# EAGLE library part ATTINY2313A (library usb)
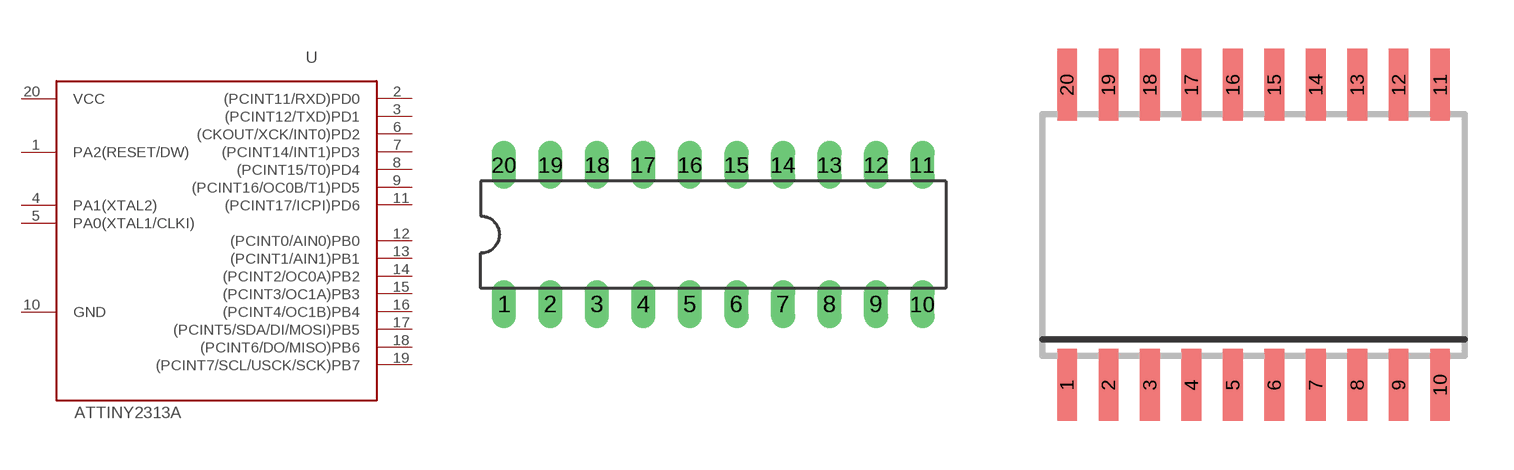
[diagram p18: symbol with the pads of DIL20; footprints DIL20, SO-20DW]

Designator prefix U

## ATTINY2313A-PU  [DIL20]
1  PA2(RESET/DW)
2  (PCINT11/RXD)PD0
3  (PCINT12/TXD)PD1
4  PA1(XTAL2)
5  PA0(XTAL1/CLKI)
6  (CKOUT/XCK/INT0)PD2
7  (PCINT14/INT1)PD3
8  (PCINT15/T0)PD4
9  (PCINT16/OC0B/T1)PD5
10  GND  pwr
11  (PCINT17/ICPI)PD6
12  (PCINT0/AIN0)PB0
13  (PCINT1/AIN1)PB1
14  (PCINT2/OC0A)PB2
15  (PCINT3/OC1A)PB3
16  (PCINT4/OC1B)PB4
17  (PCINT5/SDA/DI/MOSI)PB5
18  (PCINT6/DO/MISO)PB6
19  (PCINT7/SCL/USCK/SCK)PB7
20  VCC  pwr

## ATTINY2313A-SU  [SO-20DW]
Pads as for DIL20

## Footprint DIL20 (pad centres in mm)
Dual In Line Package
drill 0.813 long: 1 -11.43,-3.81; 2 -8.89,-3.81; 3 -6.35,-3.81; 4 -3.81,-3.81; 5 -1.27,-3.81; 6 1.27,-3.81; 7 3.81,-3.81; 8 6.35,-3.81; 9 8.89,-3.81; 10 11.43,-3.81; 11 11.43,3.81; 12 8.89,3.81; 13 6.35,3.81; 14 3.81,3.81; 15 1.27,3.81; 16 -1.27,3.81; 17 -3.81,3.81; 18 -6.35,3.81; 19 -8.89,3.81; 20 -11.43,3.81

## Footprint SO-20DW (pad centres in mm)
Small Outline Integrated Circuit wide
smd 0.6 x 2.2: 1 -5.715,-4.6; 2 -4.445,-4.6; 3 -3.175,-4.6; 4 -1.905,-4.6; 5 -0.635,-4.6; 6 0.635,-4.6; 7 1.905,-4.6; 8 3.175,-4.6; 9 4.445,-4.6; 10 5.715,-4.6; 11 5.715,4.6; 12 4.445,4.6; 13 3.175,4.6; 14 1.905,4.6; 15 0.635,4.6; 16 -0.635,4.6; 17 -1.905,4.6; 18 -3.175,4.6; 19 -4.445,4.6; 20 -5.715,4.6